# EAGLE library part 320-938 (library SWITCH1)
TOGGLE SWITCH distributor RS Components
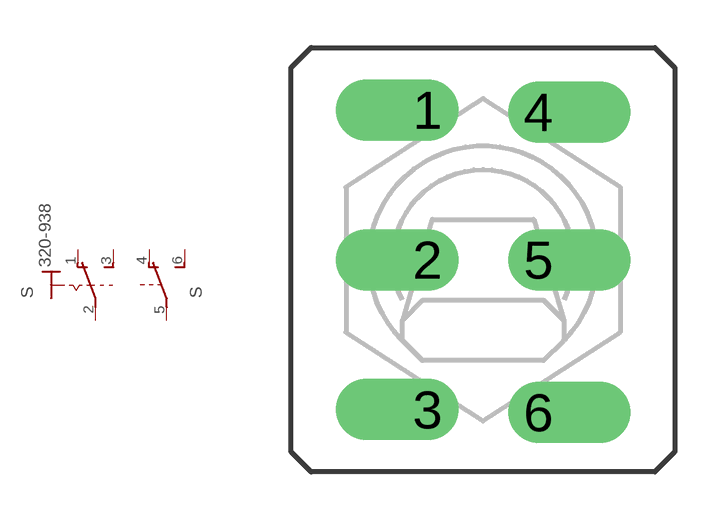
[diagram p2: symbol with the pads of 320-938; footprint 320-938]

Designator prefix S; gates B=U2 1=KS-U-

## 320-938  [320-938]
1  1:O  pas
2  1:P  pas
3  1:S  pas
4  B:O  pas
5  B:P  pas
6  B:S  pas

## Footprint 320-938 (pad centres in mm)
TOGGLE SWITCH distributor RS Components
drill 0.8 pad 1.93 offset: 1 -1.74,4.718; 2 -1.74,0; 3 -1.74,-4.718; 4 1.753,4.648; 5 1.753,0; 6 1.752,-4.807